# EAGLE library part BATTERY_CHARGER_DEV (library Blizzard_Library)
IC BATT CHARGER LI-ION 10MSOP PN: 296-41204-1-ND
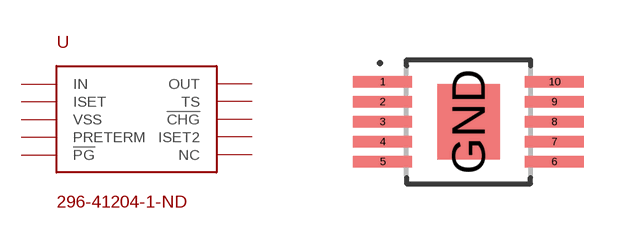
[diagram p7: symbol with the pads of SOP50P490X110-10; footprint SOP50P490X110-10]

Designator prefix U

## BATTERY_CHARGER_DEV3D  [SOP50P490X110-10]
1  IN
2  ISET
3  VSS
4  PRETERM
5  !PG
6  NC
7  ISET2
8  !CHG
9  TS
10  OUT
GND  VSS

## Footprint SOP50P490X110-10 (pad centres in mm)
10-SOP, 0.5 mm pitch, 4.9 mm span, 3 X 3 X 1.1 mm body 10-pin SOP package with 0.5 mm pitch, 4.9 mm span with body size 3 X 3 X 1.1 mm
smd 1.471 x 0.28: 1 -2.15,1; 2 -2.15,0.5; 3 -2.15,0; 4 -2.15,-0.5; 5 -2.15,-1; 6 2.15,-1; 7 2.15,-0.5; 8 2.15,0; 9 2.15,0.5; 10 2.15,1
smd 1.57 x 1.88: GND 0,0